# Altium schematic symbol library PMP30284RevB_project.SCHLIB: 30 symbols
Pins are listed as number, name and electrical type; pins without a type are passive.

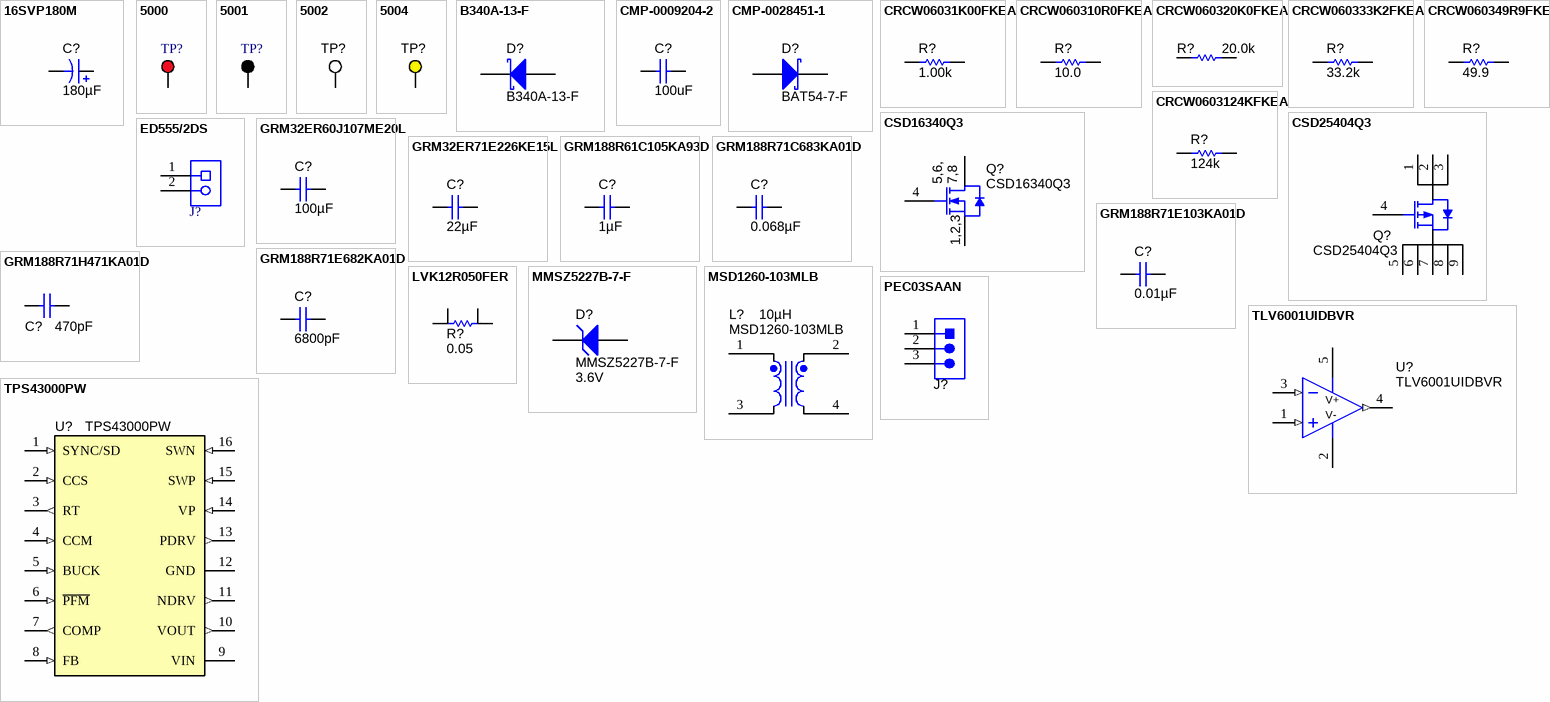
[diagram p0: symbols 16SVP180M to TPS43000PW]

## 16SVP180M
designator C?  ValueDisplayed: 180µF  (hidden comment: 16SVP180M)
CAP, Aluminum Polymer, 180 µF, 16 V,+/- 20%, 0.02 ohm, 8x10 SMD; Manufacturer: Panasonic; Polarized: Y; CompType: Capacitor; Value: 180uF; U/M: EA; Cap_F: 0.00018; Tolerance_%: 20; VDC_V: 16; Value2: 16V; ESR_ohm: 0.02; IRMS_A: 3.64; TaMin_C: -55; TaMax_C: 105; Cap_Case: 8.3x8.3x11.9; SizeAreaWB_mm2: 113.3; SizeArea_mm2: 74.7; SizeX_mm: 9; SizeY_mm: 8.3; SizeZ_mm: 10.2; AEC Category: Q200; Green_Lifecycle: Not Set; Green_REACh: Incomplete; SymbolVersion: 2008-07-09; PartNumber: 16SVP180M; PackageReference: 8x10; RoHS: Y; Value1: 0.02 ohm; MountType: SMT; Technology: Aluminum Polymer; Series: SVP; Publisher: Texas Instruments; LatestRevisionDate: 2017-05-31; ComponentLink1Description: Datasheet link; ComponentLink1URL: https://industrial.panasonic.com/content/data/CP/PDF/OS-CON/S_OS-CON_SVP_e.pdf; AEC Qualified: ?; Green_EU RoHS: Incomplete; Green_EU RoHS-2: Incomplete
signal-integrity model Cap
simulation model Cap
footprint SM_RADIAL_8MM
pins: 1 +, 2 -

## 5000
designator TP?  (value not drawn)
Test Point, Miniature, Red, TH; Manufacturer: Keystone; CompType: Test Point Loop; ContactFinish: Silver; Green_Lifecycle: Active; Green_REACh: Passed; PartNumber: 5000; PackageReference: Red Miniature Testpoint; SymbolVersion: 2008-04-04; ComponentLink1URL: http://www.keyelco.com/userAssets/file/M60-2p60.pdf; RoHS: Y; MountType: TH; ComponentLink1Description: Datasheet URL; Color: Red; Publisher: Texas Instruments; LatestRevisionDate: 2017-05-11; Supplier 1: Digi-Key; Supplier Part Number 1: 36-5000-ND; Supplier 2: Mouser; Supplier Part Number 2: 534-5000; Green_EU RoHS: Passed; Green_EU RoHS-2: Incomplete
footprint Keystone5000
pins: 1

## 5001
designator TP?  (value not drawn)
Test Point, Miniature, Black, TH; Manufacturer: Keystone; CompType: Test Point Loop; ContactFinish: Silver; Green_Lifecycle: Active; Green_REACh: Passed; PartNumber: 5001; PackageReference: Black Miniature Testpoint; SymbolVersion: 2008-04-04; ComponentLink1URL: http://www.keyelco.com/userAssets/file/M60-2p60.pdf; RoHS: Y; MountType: TH; ComponentLink1Description: Datasheet URL; Color: Black; Publisher: Texas Instruments; LatestRevisionDate: 2017-05-11; Supplier 1: Digi-Key; Supplier Part Number 1: 36-5001-ND; Supplier 2: Mouser; Supplier Part Number 2: 534-5001; Green_EU RoHS: Passed; Green_EU RoHS-2: Incomplete
footprint Keystone5001
pins: 1

## 5002
designator TP?  (value not drawn)
Test Point, Miniature, White, TH; Manufacturer: Keystone; CompType: Test Point Loop; ContactFinish: Silver; Green_Lifecycle: Active; Green_REACh: Passed; SymbolVersion: 2008-04-04; PartNumber: 5002; PackageReference: White Miniature Testpoint; RoHS: Y; MountType: TH; ComponentLink1Description: Datasheet URL; ComponentLink1URL: http://www.keyelco.com/userAssets/file/M60-2p60.pdf; Color: White; Publisher: Texas Instruments; LatestRevisionDate: 2017-05-11; Supplier 1: Digi-Key; Supplier Part Number 1: 36-5002-ND; Supplier 2: Newark; Supplier Part Number 2: 82H9632; Supplier 3: Mouser; Supplier Part Number 3: 534-5002; Green_EU RoHS: Passed; Green_EU RoHS-2: Passed
footprint Keystone5002
pins: 1

## 5004
designator TP?  (value not drawn)
Test Point, Miniature, Yellow, TH; Manufacturer: Keystone; CompType: Test Point Loop; ContactFinish: Silver; Green_Lifecycle: Active; Green_REACh: Passed; SymbolVersion: 2008-04-04; PartNumber: 5004; PackageReference: Yellow Miniature Testpoint; RoHS: Y; MountType: TH; ComponentLink1Description: Datasheet URL; ComponentLink1URL: http://www.keyelco.com/userAssets/file/M60-2p60.pdf; Color: Yellow; Publisher: Texas Instruments; LatestRevisionDate: 2017-05-11; Supplier 1: Digi-Key; Supplier Part Number 1: 36-5004-ND; Supplier 2: Mouser; Supplier Part Number 2: 534-5004; Green_EU RoHS: Passed; Green_EU RoHS-2: Incomplete
footprint Keystone5004
pins: 1

## B340A-13-F
designator D?
Diode, Schottky, 40 V, 3 A, SMA; Manufacturer: Diodes Inc.; U/M: EA; Vf_V: 0.5; Value: 40V; Value1: 3A; Value2: 0.5V; Io_A: 3; Vr_V: 40; TJmax_C: 125; RJC_CperW: 25; SizeAreaWB_mm2: 37.3428; SizeArea_mm2: 16.3228; SizeX_mm: 5.59; SizeY_mm: 2.92; SizeZ_mm: 2.87; AEC Category: Q101; Green_Lifecycle: Active; Green_REACh: Passed; CompType: Diode; SymbolVersion: 2008-12-08; PartNumber: B340A-13-F; PackageReference: SMA; MountType: SMT; Type: Schottky; RoHS: Y; Published: 2008-06-26; Publisher: Texas Instruments; LatestRevisionDate: 2017-05-30; ComponentLink1Description: Datasheet link; ComponentLink1URL: http://www.diodes.com/datasheets/ds30891.pdf; Supplier 1: Digi-Key; Supplier Part Number 1: B340A-FDICT-ND; Supplier 2: Mouser; Supplier Part Number 2: 621-B340A-F; Supplier 3: Farnell; Supplier Part Number 3: 1843668; AEC Qualified: ?; Green_EU RoHS: Passed with Exemption; Green_EU RoHS-2: Passed
signal-integrity model Diode
simulation model DI_B340A
footprint SMA
pins: 1 K, 2 A

## CMP-0009204-2
designator C?, comment ValueDisplayed: 100uF  (hidden comment: GRM32ER60J107ME20L)
CAP, CERM, 100 uF, 6.3 V, +/- 20%, X5R, 1210; Manufacturer: MuRata; TaMin_C: -55°C; ESR_ohm: 2m; Polarized: N; SizeAreaWB_mm2: 14.7; Value1: 0.002 ohm; U/M: EA; Value: 100uF; TaMax_C: 85°C; SizeZ_mm: 2.7; SizeX_mm: 3.2; SizeY_mm: 2.5; Cap_Case: 1210; Value2: 6.3V; SizeArea_mm2: 8; CompType: Capacitor; Cap_F: 100µF; AEC Category: Q200; Supplier Part Number 2: 81-GRM32ER60J107ME20; Publisher: Texas Instruments; Supplier 2: Mouser; Supplier Part Number 3: 1828817; TempCo: X5R; Supplier 3: Farnell; Published: 2008-06-19; RoHS: Y; MountType: SMT; Supplier 1: Digi-Key; PackageReference: 1210; Tolerance_%: 20%; LatestRevisionDate: 2017-03-09; PartNumber: GRM32ER60J107ME20L; AEC Qualified: ?; VDC_V: 6.3V; ComponentLink1Description: Datasheet link; Supplier Part Number 1: 490-3390-1-ND; Technology: Ceramic; ComponentLink1URL: http://search.murata.co.jp/Ceramy/PnsearchViewAction.do?HnOFG=ON&HnNFG=ON&SEL_CNT=50&sLang=en&sKey=GRM32ER60J107ME20L&x=9&y=9&search=startwith
footprint 1210_270 (1210)
footprint 1210_270L (1210)
footprint 1210_270M (1210)
pins: 1, 2

## CMP-0028451-1
designator D?, comment BAT54-7-F
Diode, Schottky, 30 V, 0.2 A, SOT-23; Manufacturer: Diodes Inc.; Io_A: 2dA; Green_Lifecycle: Active; SizeAreaWB_mm2: 14; Vr_V: 30V; Green_REACh: Passed; Value1: 0.2A; TJmax_C: 125°C; U/M: EA; Value: 30V; SizeZ_mm: 1.1; SizeX_mm: 2.5; SizeY_mm: 3; Vf_V: 6.5dV; Value2: 0.65V; SizeArea_mm2: 7.5; AEC Category: Q101; ComponentLink1URL: http://www.diodes.com/datasheets/ds11005.pdf; Supplier Part Number 2: 621-BAT54-F; Publisher: Texas Instruments; Supplier 2: Mouser; Published: 2008-06-26; RoHS: Y; MountType: SMT; Green_EU RoHS-2: Passed; Supplier 1: Digi-Key; Green_EU RoHS: Passed; PackageReference: SOT-23; CompType: Diode; Type: Schottky; LatestRevisionDate: 2017-05-08; PartNumber: BAT54-7-F; AEC Qualified: ?; ComponentLink1Description: Datasheet link; Supplier Part Number 1: BAT54-FDICT-ND
footprint SOT-23 (SOT23, 3-Leads, Body 2.9x1.3mm, Pitch 0.95mm, Lead Span 2.5mm, IPC Medium Density)
footprint SOT-23L (SOT23, 3-Leads, Body 2.9x1.3mm, Pitch 0.95mm, Lead Span 2.5mm, IPC High Density)
footprint SOT-23M (SOT23, 3-Leads, Body 2.9x1.3mm, Pitch 0.95mm, Lead Span 2.5mm, IPC Low Density)
pins: 1 A, 3 K

## CRCW06031K00FKEA
designator R?  ValueDisplayed: 1.00k  (hidden comment: CRCW06031K00FKEA)
RES, 1.00 k, 1%, 0.1 W, 0603; Manufacturer: Vishay-Dale; Value: 1.00k; CompType: Resistor; Res_ohm: 1000; Value_Code: 1k00; Tolerance_%: 1; Power_W: 0.1; Value2: 0.1W; VDC_V: 75; TempCo: 100 ppm/C; SizeArea_mm2: 1.28; SizeX_mm: 1.6; SizeY_mm: 0.8; EIA_Code: E96; U/M: EA; AEC Category: Q200; Green_Lifecycle: Active; Green_REACh: Passed; SymbolVersion: 2009-05-29; PartNumber: CRCW06031K00FKEA; PackageReference: 0603; RoHS: Y; Value1: 1%; MountType: SMT; Technology: Thick Film; SizeZ_mm: 1; Published: 2008-06-26; Publisher: Texas Instruments; LatestRevisionDate: 2017-06-13; ComponentLink1Description: Datasheet link; ComponentLink1URL: http://www.vishay.com/docs/20035/dcrcwe3.pdf; Supplier 1: Digi-Key; Supplier Part Number 1: 541-1.00KHCT-ND; Supplier 2: Newark; Supplier Part Number 2: 52K8015; Supplier 3: Mouser; Supplier Part Number 3: 71-CRCW0603-1.0K-E3; AEC Qualified: ?; Green_EU RoHS: Passed with Exemption; Green_EU RoHS-2: Passed
signal-integrity model Resistor
simulation model Resistor
footprint 0603
footprint 0603M
footprint 0603L
footprint 0603_HV
footprint 0603S
pins: 1, 2

## CRCW060310R0FKEA
designator R?  ValueDisplayed: 10.0  (hidden comment: CRCW060310R0FKEA)
RES, 10.0, 1%, 0.1 W, 0603; Manufacturer: Vishay-Dale; CompType: Resistor; Value: 10.0; Res_ohm: 10; Value_Code: 10R0; Tolerance_%: 1; Power_W: 0.1; Value2: 0.1W; VDC_V: 75; TempCo: 100 ppm/C; SizeArea_mm2: 1.28; SizeX_mm: 1.6; SizeY_mm: 0.8; EIA_Code: E96; U/M: EA; AEC Category: Q200; Green_Lifecycle: Active; Green_REACh: Passed; SymbolVersion: 2009-05-29; PartNumber: CRCW060310R0FKEA; PackageReference: 0603; RoHS: Y; Value1: 1%; MountType: SMT; Technology: Thick Film; SizeZ_mm: 1; Published: 2008-06-26; Publisher: Texas Instruments; LatestRevisionDate: 2017-05-31; ComponentLink1Description: Datasheet link; ComponentLink1URL: http://www.vishay.com/docs/20035/dcrcwe3.pdf; Supplier 1: Digi-Key; Supplier Part Number 1: 541-10.0HCT-ND; Supplier 2: Newark; Supplier Part Number 2: 52K8073; Supplier 3: Mouser; Supplier Part Number 3: 71-CRCW0603-10-E3; AEC Qualified: ?; Green_EU RoHS: Passed with Exemption; Green_EU RoHS-2: Passed
signal-integrity model Resistor
simulation model Resistor
footprint 0603
footprint 0603M
footprint 0603L
footprint 0603_HV
footprint 0603S
pins: 1, 2

## CRCW060320K0FKEA
designator R?  ValueDisplayed: 20.0k  (hidden comment: CRCW060320K0FKEA)
RES, 20.0 k, 1%, 0.1 W, 0603; Manufacturer: Vishay-Dale; CompType: Resistor; Value: 20.0k; Res_ohm: 20000; Value_Code: 20k0; Tolerance_%: 1; Power_W: 0.1; Value2: 0.1W; VDC_V: 75; TempCo: 100 ppm/C; SizeArea_mm2: 1.28; SizeX_mm: 1.6; SizeY_mm: 0.8; EIA_Code: E96; U/M: EA; AEC Category: Q200; Green_Lifecycle: Active; Green_REACh: Passed; SymbolVersion: 2009-05-29; PartNumber: CRCW060320K0FKEA; PackageReference: 0603; RoHS: Y; Value1: 1%; MountType: SMT; Technology: Thick Film; SizeZ_mm: 1; Published: 2008-06-26; Publisher: Texas Instruments; LatestRevisionDate: 2017-05-31; ComponentLink1Description: Datasheet link; ComponentLink1URL: http://www.vishay.com/docs/20035/dcrcwe3.pdf; Supplier 1: Digi-Key; Supplier Part Number 1: 541-20.0KHCT-ND; Supplier 2: Newark; Supplier Part Number 2: 52K8267; Supplier 3: Mouser; Supplier Part Number 3: 71-CRCW0603-20K-E3; AEC Qualified: ?; Green_EU RoHS: Passed with Exemption; Green_EU RoHS-2: Passed
signal-integrity model Resistor
simulation model Resistor
footprint 0603
footprint 0603M
footprint 0603L
footprint 0603_HV
footprint 0603S
pins: 1, 2

## CRCW060333K2FKEA
designator R?  ValueDisplayed: 33.2k  (hidden comment: CRCW060333K2FKEA)
RES, 33.2 k, 1%, 0.1 W, 0603; Manufacturer: Vishay-Dale; CompType: Resistor; Value: 33.2k; Res_ohm: 33200; Value_Code: 33k2; Tolerance_%: 1; Power_W: 0.1; Value2: 0.1W; VDC_V: 75; TempCo: 100 ppm/C; SizeArea_mm2: 1.28; SizeX_mm: 1.6; SizeY_mm: 0.8; EIA_Code: E96; U/M: EA; AEC Category: Q200; Green_Lifecycle: Active; Green_REACh: Passed; SymbolVersion: 2009-05-29; PartNumber: CRCW060333K2FKEA; PackageReference: 0603; RoHS: Y; Value1: 1%; MountType: SMT; Technology: Thick Film; SizeZ_mm: 1; Published: 2008-06-26; Publisher: Texas Instruments; LatestRevisionDate: 2017-05-31; ComponentLink1Description: Datasheet link; ComponentLink1URL: http://www.vishay.com/docs/20035/dcrcwe3.pdf; Supplier 1: Digi-Key; Supplier Part Number 1: 541-33.2KHCT-ND; Supplier 2: Mouser; Supplier Part Number 2: 71-CRCW0603-33.2K-E3; Supplier 3: Farnell; Supplier Part Number 3: 1692523; AEC Qualified: ?; Green_EU RoHS: Passed with Exemption; Green_EU RoHS-2: Passed
signal-integrity model Resistor
simulation model Resistor
footprint 0603
footprint 0603M
footprint 0603L
footprint 0603_HV
footprint 0603S
pins: 1, 2

## CRCW060349R9FKEA
designator R?  ValueDisplayed: 49.9  (hidden comment: CRCW060349R9FKEA)
RES, 49.9, 1%, 0.1 W, 0603; Manufacturer: Vishay-Dale; Value: 49.9; CompType: Resistor; Value_Code: 49R9; Tolerance_%: 1; Power_W: 0.1; Value2: 0.1W; VDC_V: 75; TempCo: 100 ppm/C; SizeArea_mm2: 1.28; SizeX_mm: 1.6; SizeY_mm: 0.8; EIA_Code: E96; U/M: EA; AEC Category: Q200; Green_Lifecycle: Active; Green_REACh: Passed; SymbolVersion: 2009-05-29; PartNumber: CRCW060349R9FKEA; PackageReference: 0603; RoHS: Y; Res_ohm: 49.9; Value1: 1%; MountType: SMT; Technology: Thick Film; SizeZ_mm: 1; Published: 2008-06-26; Publisher: Texas Instruments; LatestRevisionDate: 2017-06-13; ComponentLink1Description: Datasheet link; ComponentLink1URL: http://www.vishay.com/docs/20035/dcrcwe3.pdf; Supplier 1: Digi-Key; Supplier Part Number 1: 541-49.9HCT-ND; Supplier 2: Newark; Supplier Part Number 2: 52K8566; Supplier 3: Mouser; Supplier Part Number 3: 71-CRCW0603-49.9-E3; AEC Qualified: ?; Green_EU RoHS: Passed with Exemption; Green_EU RoHS-2: Passed
signal-integrity model Resistor
simulation model Resistor
footprint 0603
footprint 0603M
footprint 0603L
footprint 0603_HV
footprint 0603S
pins: 1, 2

## CRCW0603124KFKEA
designator R?  ValueDisplayed: 124k  (hidden comment: CRCW0603124KFKEA)
RES, 124 k, 1%, 0.1 W, 0603; Manufacturer: Vishay-Dale; Value: 124k; CompType: Resistor; Res_ohm: 124000; Tolerance_%: 1; Power_W: 0.1; Value2: 0.1W; VDC_V: 75; TempCo: 100 ppm/C; SizeArea_mm2: 1.28; SizeX_mm: 1.6; SizeY_mm: 0.8; EIA_Code: E96; U/M: EA; AEC Category: Q200; Green_Lifecycle: Active; Green_REACh: Passed; SymbolVersion: 2009-05-29; PartNumber: CRCW0603124KFKEA; PackageReference: 0603; RoHS: Y; Value_Code: 124k; Value1: 1%; MountType: SMT; Technology: Thick Film; SizeZ_mm: 1; Published: 2008-06-26; Publisher: Texas Instruments; LatestRevisionDate: 2017-06-13; ComponentLink1Description: Datasheet link; ComponentLink1URL: http://www.vishay.com/docs/20035/dcrcwe3.pdf; Supplier 1: Digi-Key; Supplier Part Number 1: 541-124KHCT-ND; Supplier 2: Newark; Supplier Part Number 2: 52K8117; Supplier 3: Mouser; Supplier Part Number 3: 71-CRCW0603-124K-E3; AEC Qualified: ?; Green_EU RoHS: Passed with Exemption; Green_EU RoHS-2: Passed
signal-integrity model Resistor
simulation model Resistor
footprint 0603
footprint 0603M
footprint 0603L
footprint 0603_HV
footprint 0603S
pins: 1, 2

## CSD16340Q3
designator Q?
MOSFET, N-CH, 25 V, 60 A, DQG0008A (VSON-CLIP-8); Manufacturer: Texas Instruments; Alternate Manufacturer: None; U/M: EA; ChType: N; Value: 25V; VdsMax_V: 25; Value1: 0.0043 ohm; Rdson45_ohm: 0.0043; Value2: 6.5 nC; QgTyp_nC: 6.5; Vgs_V: 10; IdsMax_A: 60; SizeAreaWB_mm2: 18.49; SizeArea_mm2: 10.89; SizeX_mm: 3.3; SizeZ_mm: 1.1; AEC Category: Q101; SymbolVersion: 2011-08-16; PartNumber: CSD16340Q3; PackageReference: DQG0008A; CompType: MOSFET; SizeY_mm: 3.3; RoHS: Y; MountType: SMT; Published: 2008-06-19; Publisher: Texas Instruments; LatestRevisionDate: 2017-06-02; LatestRevisionNote: Added parts.; ComponentLink1Description: Datasheet link; ComponentLink1URL: http://www.ti.com/lit/ds/symlink/csd16340q3.pdf; Supplier 1: Digi-Key; Supplier Part Number 1: 296-25646-1-ND; Supplier 2: Newark; Supplier Part Number 2: 60R3529; Supplier 3: Mouser; Supplier Part Number 3: 595-CSD16340Q3; AEC Qualified: ?
footprint DQG0008A
footprint DQG0008A_NV
simulation model CSD16340Q3
pins: 1 S, 2 S, 3 S, 4 G, 5 D, 6 D, 7 D, 8 D, 9 D
text: 5,6,; 7,8; 1,2,3

## CSD25404Q3
designator Q?
MOSFET, P-CH, -20 V, -60 A, DQG0008A (VSON-CLIP-8); Manufacturer: Texas Instruments; Alternate Manufacturer: None; SymbolCreator: a0799628; U/M: EA; ChType: P; Value: -20V; Value1: 0.0065 ohm; Rdson45_ohm: 0.0065; Value2: 10.8 nC; QgTyp_nC: 10.8; Vgs_V: -12; SizeAreaWB_mm2: 18.49; SizeArea_mm2: 10.89; SizeX_mm: 3.3; SizeZ_mm: 1.1; AEC Category: Q101; AEC Qualified: N; SymbolVersion: 2014-08-22; PartNumber: CSD25404Q3; PackageReference: DQG0008A; CompType: MOSFET; VdsMax_V: -20; IdsMax_A: -60; SizeY_mm: 3.3; RoHS: Y; MountType: SMT; Published: 2008-06-19; Publisher: Texas Instruments; LatestRevisionDate: 2017-06-02; LatestRevisionNote: Added parts.; ComponentLink1Description: Datasheet link; ComponentLink1URL: http://www.ti.com/lit/ds/symlink/csd25404q3.pdf
footprint DQG0008A
footprint DQG0008A_NV
pins: 1 D, 2 D, 3 D, 4 G, 5 S, 6 S, 7 S, 8 S, 9 S

## ED555/2DS
designator J?  (value not drawn)
Terminal Block, 3.5mm Pitch, 2x1, TH; Manufacturer: On-Shore Technology; SymbolCreator: a0412235; Pitch_mm: 3.5; Gender: Female; Shrouded: N; Row_Count: 1; ContactFinish: Brass; Current_A: 6; Voltage_V: 150; Cert_CULUS: Y; Green_Lifecycle: Active; Green_REACh: Passed; PartNumber: ED555/2DS; PackageReference: 7.0x8.2x6.5mm; SymbolVersion: 2013-09-04; ComponentLink1URL: http://on-shore.com/sites/default/files/manuals/ed555ds.pdf; CompType: Terminal Block; RoHS: Y; MountType: TH; ComponentLink1Description: Datasheet URL; PinCount: 2; Color: Grey; Cert_VDE: Y; Publisher: Texas Instruments; LatestRevisionDate: 2017-06-05; Supplier 1: Digi-Key; Supplier Part Number 1: ED1514-ND; Green_EU RoHS: Passed with Exemption; Green_EU RoHS-2: Passed
footprint TERM_BLK_ED555-2DS
pins: 1, 2

## GRM32ER60J107ME20L
designator C?  ValueDisplayed: 100µF  (hidden comment: GRM32ER60J107ME20L)
CAP, CERM, 100 µF, 6.3 V,+/- 20%, X5R, 1210; Manufacturer: MuRata; Polarized: N; CompType: Capacitor; Value: 100uF; U/M: EA; Cap_F: 0.0001; Tolerance_%: 20; ESR_ohm: 0.002; Value1: 0.002 ohm; VDC_V: 6.3; Value2: 6.3V; TaMin_C: -55; TaMax_C: 85; Cap_Case: 1210; SizeArea_mm2: 8; SizeAreaWB_mm2: 14.7; SizeX_mm: 3.2; SizeY_mm: 2.5; SizeZ_mm: 2.7; AEC Category: Q200; Green_Lifecycle: Active; Green_REACh: Passed; SymbolVersion: 2008-07-09; PartNumber: GRM32ER60J107ME20L; PackageReference: 1210; RoHS: Y; MountType: SMT; Technology: Ceramic; TempCo: X5R; Published: 2008-06-19; Publisher: Texas Instruments; LatestRevisionDate: 2017-06-02; ComponentLink1Description: Datasheet link; ComponentLink1URL: http://search.murata.co.jp/Ceramy/PnsearchViewAction.do?HnOFG=ON&HnNFG=ON&SEL_CNT=50&sLang=en&sKey=GRM32ER60J107ME20L&x=9&y=9&search=startwith; Supplier 1: Digi-Key; Supplier Part Number 1: 490-3390-1-ND; Supplier 2: Mouser; Supplier Part Number 2: 81-GRM32ER60J107ME20; Supplier 3: Farnell; Supplier Part Number 3: 1828817; AEC Qualified: ?; Green_EU RoHS: Passed; Green_EU RoHS-2: Incomplete
signal-integrity model Cap
simulation model Cap
footprint 1210_270
footprint 1210_270M
footprint 1210_270L
pins: 1, 2

## GRM32ER71E226KE15L
designator C?  ValueDisplayed: 22µF  (hidden comment: GRM32ER71E226KE15L)
CAP, CERM, 22 µF, 25 V,+/- 10%, X7R, 1210; Manufacturer: MuRata; Polarized: N; CompType: Capacitor; Value: 22uF; U/M: EA; Cap_F: 0.000022; Tolerance_%: 10; ESR_ohm: 0.002334; Value1: 0.002334 ohm; VDC_V: 25; Value2: 25V; IRMS_A: 3.832999; TaMin_C: -55; TaMax_C: 125; Cap_Case: 1210; SizeArea_mm2: 8; SizeAreaWB_mm2: 14.7; SizeX_mm: 3.2; SizeY_mm: 2.5; SizeZ_mm: 2.7; AEC Category: Q200; Green_Lifecycle: Active; Green_REACh: Passed; SymbolVersion: 2008-07-09; PartNumber: GRM32ER71E226KE15L; PackageReference: 1210; RoHS: Y; MountType: SMT; Technology: Ceramic; TempCo: X7R; Published: 2008-06-19; Publisher: Texas Instruments; LatestRevisionDate: 2017-06-02; ComponentLink1Description: Datasheet link; ComponentLink1URL: http://psearch.en.murata.com/capacitor/result/smd/?status=all&pid=GRM32ER71E226KE15L; Supplier 1: Digi-Key; Supplier Part Number 1: 490-5313-1-ND; Supplier 2: Mouser; Supplier Part Number 2: 81-GRM32ER71E226KE5L; Supplier 3: Farnell; Supplier Part Number 3: 1797019; AEC Qualified: N; AEC Grade: N/A; Green_EU RoHS: Passed; Green_EU RoHS-2: Passed
signal-integrity model Cap
simulation model Cap
footprint 1210_270
footprint 1210_270M
footprint 1210_270L
pins: 1, 2

## GRM188R61C105KA93D
designator C?  ValueDisplayed: 1µF  (hidden comment: GRM188R61C105KA93D)
CAP, CERM, 1 µF, 16 V,+/- 10%, X5R, 0603; Manufacturer: MuRata; Value: 1uF; Polarized: N; CompType: Capacitor; U/M: EA; Cap_F: 0.000001; Tolerance_%: 10; VDC_V: 16; Value2: 16V; TaMin_C: -55; TaMax_C: 85; Cap_Case: 0603; SizeArea_mm2: 1.28; SizeAreaWB_mm2: 4.68; SizeX_mm: 1.6; SizeY_mm: 0.8; SizeZ_mm: 1; AEC Category: Q200; Green_Lifecycle: Active; Green_REACh: Passed; PartNumber: GRM188R61C105KA93D; SymbolVersion: 2008-07-09; PackageReference: 0603; RoHS: Y; MountType: SMT; Technology: Ceramic; TempCo: X5R; Published: 2008-06-19; Publisher: Texas Instruments; LatestRevisionDate: 2017-06-16; ComponentLink1Description: Datasheet link; ComponentLink1URL: http://search.murata.co.jp/Ceramy/PnsearchViewAction.do?HnOFG=ON&HnNFG=ON&SEL_CNT=50&sLang=en&sKey=GRM188R61C105KA93D&x=9&y=9&search=startwith; Supplier 1: Digi-Key; Supplier Part Number 1: 490-1536-1-ND; Supplier 2: Mouser; Supplier Part Number 2: 81-GRM39R105K16; Supplier 3: Farnell; Supplier Part Number 3: 1828801; AEC Qualified: ?; Green_EU RoHS: Passed; Green_EU RoHS-2: Incomplete
signal-integrity model Cap
simulation model Cap
footprint 0603
footprint 0603M
footprint 0603L
footprint 0603_HV
footprint 0603S
pins: 1, 2

## GRM188R71C683KA01D
designator C?  ValueDisplayed: 0.068µF  (hidden comment: GRM188R71C683KA01D)
CAP, CERM, 0.068 µF, 16 V,+/- 10%, X7R, 0603; Manufacturer: MuRata; Polarized: N; CompType: Capacitor; Value: 0.068uF; U/M: EA; Cap_F: 0.000000068; Tolerance_%: 10; Value1: Unknown; VDC_V: 16; Value2: 16V; TaMin_C: -55; TaMax_C: 125; Cap_Case: 0603; SizeArea_mm2: 1.28; SizeAreaWB_mm2: 4.68; SizeX_mm: 1.6; SizeY_mm: 0.8; SizeZ_mm: 1; AEC Category: Q200; SymbolVersion: 2008-07-09; PartNumber: GRM188R71C683KA01D; PackageReference: 0603; RoHS: Y; MountType: SMT; Technology: Ceramic; TempCo: X7R; Published: 2008-06-19; Publisher: Texas Instruments; LatestRevisionDate: 2017-06-02; ComponentLink1Description: Datasheet link; ComponentLink1URL: http://search.murata.co.jp/Ceramy/PnsearchViewAction.do?HnOFG=ON&HnNFG=ON&SEL_CNT=50&sLang=en&sKey=GRM188R71C683KA01D&x=9&y=9&search=startwith; Supplier 1: Digi-Key; Supplier Part Number 1: 490-1531-1-ND; Supplier 2: Mouser; Supplier Part Number 2: 81-GRM39X683K16D; AEC Qualified: ?
signal-integrity model Cap
simulation model Cap
footprint 0603
footprint 0603M
footprint 0603L
footprint 0603_HV
footprint 0603S
pins: 1, 2

## GRM188R71E103KA01D
designator C?  ValueDisplayed: 0.01µF  (hidden comment: GRM188R71E103KA01D)
CAP, CERM, 0.01 µF, 25 V,+/- 10%, X7R, 0603; Manufacturer: MuRata; Polarized: N; CompType: Capacitor; Value: 0.01uF; U/M: EA; Cap_F: 0.00000001; Tolerance_%: 10; Value1: Unknown; VDC_V: 25; Value2: 25V; TaMin_C: -55; TaMax_C: 125; Cap_Case: 0603; SizeArea_mm2: 1.28; SizeAreaWB_mm2: 4.68; SizeX_mm: 1.6; SizeY_mm: 0.8; SizeZ_mm: 1; AEC Category: Q200; Green_Lifecycle: Active; Green_REACh: Passed; SymbolVersion: 2008-07-09; PartNumber: GRM188R71E103KA01D; PackageReference: 0603; RoHS: Y; MountType: SMT; Technology: Ceramic; TempCo: X7R; Published: 2008-06-19; Publisher: Texas Instruments; LatestRevisionDate: 2017-06-02; ComponentLink1Description: Datasheet link; ComponentLink1URL: http://search.murata.co.jp/Ceramy/PnsearchViewAction.do?HnOFG=ON&HnNFG=ON&SEL_CNT=50&sLang=en&sKey=GRM188R71E103KA01D&x=9&y=9&search=startwith; Supplier 1: Digi-Key; Supplier Part Number 1: 490-1520-1-ND; Supplier 2: Mouser; Supplier Part Number 2: 81-GRM39X103K25; AEC Qualified: ?; Green_EU RoHS: Passed; Green_EU RoHS-2: Incomplete
signal-integrity model Cap
simulation model Cap
footprint 0603
footprint 0603M
footprint 0603L
footprint 0603_HV
footprint 0603S
pins: 1, 2

## GRM188R71E682KA01D
designator C?  ValueDisplayed: 6800pF  (hidden comment: GRM188R71E682KA01D)
CAP, CERM, 6800 pF, 25 V,+/- 10%, X7R, 0603; Manufacturer: MuRata; Polarized: N; CompType: Capacitor; Value: 6800pF; U/M: EA; Cap_F: 0.0000000068; Tolerance_%: 10; Value1: Unknown; VDC_V: 25; Value2: 25V; TaMin_C: -55; TaMax_C: 125; Cap_Case: 0603; SizeArea_mm2: 1.28; SizeAreaWB_mm2: 4.68; SizeX_mm: 1.6; SizeY_mm: 0.8; SizeZ_mm: 1; AEC Category: Q200; SymbolVersion: 2008-07-09; PartNumber: GRM188R71E682KA01D; PackageReference: 0603; RoHS: Y; MountType: SMT; Technology: Ceramic; TempCo: X7R; Published: 2008-06-19; Publisher: Texas Instruments; LatestRevisionDate: 2017-06-02; ComponentLink1Description: Datasheet link; ComponentLink1URL: http://search.murata.co.jp/Ceramy/PnsearchViewAction.do?HnOFG=ON&HnNFG=ON&SEL_CNT=50&sLang=en&sKey=GRM188R71E682KA01D&x=9&y=9&search=startwith; Supplier 1: Mouser; Supplier Part Number 1: 81-GRM18R71E682KA01D; AEC Qualified: ?
signal-integrity model Cap
simulation model Cap
footprint 0603
footprint 0603M
footprint 0603L
footprint 0603_HV
footprint 0603S
pins: 1, 2

## GRM188R71H471KA01D
designator C?  ValueDisplayed: 470pF  (hidden comment: GRM188R71H471KA01D)
CAP, CERM, 470 pF, 50 V,+/- 10%, X7R, 0603; Manufacturer: MuRata; Polarized: N; CompType: Capacitor; Value: 470pF; U/M: EA; Cap_F: 0.00000000047; Tolerance_%: 10; Value1: Unknown; VDC_V: 50; Value2: 50V; TaMin_C: -55; TaMax_C: 125; Cap_Case: 0603; SizeArea_mm2: 1.28; SizeAreaWB_mm2: 4.68; SizeX_mm: 1.6; SizeY_mm: 0.8; SizeZ_mm: 1; AEC Category: Q200; Green_Lifecycle: Active; Green_REACh: Passed; SymbolVersion: 2008-07-09; PartNumber: GRM188R71H471KA01D; PackageReference: 0603; RoHS: Y; MountType: SMT; Technology: Ceramic; TempCo: X7R; Published: 2008-06-19; Publisher: Texas Instruments; LatestRevisionDate: 2017-06-02; ComponentLink1Description: Datasheet link; ComponentLink1URL: http://search.murata.co.jp/Ceramy/PnsearchViewAction.do?HnOFG=ON&HnNFG=ON&SEL_CNT=50&sLang=en&sKey=GRM188R71H471KA01D&x=9&y=9&search=startwith; Supplier 1: Digi-Key; Supplier Part Number 1: 490-1489-1-ND; Supplier 2: Mouser; Supplier Part Number 2: 81-GRM39X471K50D; Supplier 3: Farnell; Supplier Part Number 3: 1403790; AEC Qualified: ?; Green_EU RoHS: Passed; Green_EU RoHS-2: Incomplete
signal-integrity model Cap
simulation model Cap
footprint 0603
footprint 0603M
footprint 0603L
footprint 0603_HV
footprint 0603S
pins: 1, 2

## LVK12R050FER
designator R?  ValueDisplayed: 0.05  (hidden comment: LVK12R050FER)
RES, 0.05, 1%, 0.5 W, 1206 sense; Manufacturer: Ohmite; CompType: Resistor; Value: 0.05; Value_Code: R050; Tolerance_%: 1; Power_W: 0.5; Value2: 0.5W; TempCo: 50 ppm/C; EIA_Code: E96; U/M: EA; AEC Category: Q200; SymbolVersion: 2009-05-29; PartNumber: LVK12R050FER; PackageReference: 1206 sense; RoHS: Y; Res_ohm: 0.05; Value1: 1%; MountType: SMT; Technology: Thick Film; Published: 2008-06-26; Publisher: Texas Instruments; LatestRevisionDate: 2017-05-17; ComponentLink1Description: Datasheet link; ComponentLink1URL: http://www.ohmite.com/catalog/pdf/lvk.pdf; Supplier 1: Digi-Key; Supplier Part Number 1: LVK12R050FERCT-ND; Supplier 2: Mouser; Supplier Part Number 2: 588-LVK12R050FER; Supplier 3: Farnell; Supplier Part Number 3: 1462290; AEC Qualified: ?
signal-integrity model Resistor
simulation model Resistor
footprint LVK12
pins: 1, 2, 3, 4

## MMSZ5227B-7-F
designator D?  value 3.6V
Diode, Zener, 3.6 V, 500 mW, SOD-123; Manufacturer: Diodes Inc.; SymbolCreator: a0412235; U/M: EA; Power_W: 0.5; Vz_V: 3.6; Value1: 0.5W; RJA_CperW: 350; SizeAreaWB_mm2: 13.095; SizeArea_mm2: 6.545; SizeX_mm: 3.85; SizeY_mm: 1.7; SizeZ_mm: 1.35; AEC Category: Q101; SymbolVersion: 2010-08-25; PartNumber: MMSZ5227B-7-F; PackageReference: SOD-123; CompType: Zener; Vr_V: N/A; MountType: SMT; RoHS: Y; ComponentLink1Description: Datasheet link; ComponentLink1URL: http://www.diodes.com/datasheets/ds18010.pdf; Published: 2008-10-08; Publisher: Texas Instruments; LatestRevisionDate: 2017-05-11; LatestRevisionNote: Updated Supplier Data; Supplier 1: Digi-Key; Supplier Part Number 1: MMSZ5227B-FDICT-ND; Supplier 2: Mouser; Supplier Part Number 2: 621-MMSZ5227B-F; Supplier 3: Farnell; Supplier Part Number 3: 2061465; AEC Qualified: ?
signal-integrity model Diode
footprint SOD-123
pins: 1 K, 2 A

## MSD1260-103MLB
designator L?  ValueDisplayed: 10µH
Coupled inductor, 10 µH, 3.7 A, 0.06 ohm, SMD; Manufacturer: Coilcraft; SymbolCreator: a0412235; Value: 10uH; Ind_H: 10.0E-6; DCR_ohm: 0.06; SymbolVersion: 2013-05-20; PartNumber: MSD1260-103MLB; PackageReference: MSD1260; MountType: SMT; ComponentLink1URL: http://www.coilcraft.com/pdfs/msd1260.pdf; ComponentLink1Description: Datasheet URL; RoHS: Y; CompType: Coupled Inductor; Publisher: Texas Instruments; Published: 2008-05-16; LatestRevisionDate: 2017-06-02
footprint MSD1260-COUPLED
pins: 1, 2, 3, 4

## PEC03SAAN
designator J?  (value not drawn)
Header, 100mil, 3x1, Tin, TH; Manufacturer: Sullins Connector Solutions; SymbolCreator: a0412235; Pitch_mm: 2.54; Gender: Male; Shrouded: N; Row_Count: 1; Current_A: 3; Voltage_V: 1800; Cert_UL: Y; Green_Lifecycle: Not Set; Green_REACh: Incomplete; SymbolVersion: 2017-03-03; PartNumber: PEC03SAAN; PackageReference: Header, 3 PIN, 100mil, Tin; ClassName: Header; CompType: Header; RoHS: Y; MountType: TH; ComponentLink1Description: Datasheet URL; ComponentLink1URL: http://www.sullinscorp.com/catalogs/77_PAGE108-109_.100_MALE_HDR.pdf; Orientation: Vertical; PinCount: 3; ContactFinish: Tin; Color: Black; Publisher: Texas Instruments; LatestRevisionDate: 2017-06-09; Supplier 1: Digi-Key; Supplier Part Number 1: S1012E-03-ND; Green_EU RoHS: Incomplete; Green_EU RoHS-2: Incomplete
footprint CONN_PEC03SAAN
footprint PEC03SAAN_Launchpad_3V3
footprint PEC03SAAN_Launchpad_5V0
pins: 1, 2, 3
5 alternate drawings of the same symbol

## TLV6001UIDBVR
designator U?
1-MHz, Low-Power Operational Amplifier for Cost-Sensitive Systems, DBV0005A (SOT-23-5); Alternate PartNumber: TLV6001UIDBVT; Manufacturer: Texas Instruments; SymbolCreator: a0411595; SizeArea_mm2: 8.12; SizeAreaWB_mm2: 14.82; SizeX_mm: 2.8; SizeY_mm: 2.9; SizeZ_mm: 1.45; CompType: IC; U/M: EA; SymbolVersion: 2015-01-06; PartNumber: TLV6001UIDBVR; PackageReference: DBV0005A; PackageDescription: SOT-23-5; MountType: SMT; ComponentLink1Description: Datasheet Link; ComponentLink1URL: http://www.ti.com/lit/ds/symlink/tlv6001.pdf; RoHS: Y; Publisher: Texas Instruments; LatestRevisionDate: 2017-05-22; Alternate Manufacturer: Texas Instruments
footprint DBV0005A_N
footprint DBV0005A_M
footprint DBV0005A_L
pins: 1 IN+ (in), 2 V- (power), 3 IN- (in), 4 OUT (out), 5 V+ (power)
1 alternate drawing of the same symbol

## TPS43000PW
designator U?
Multi-Topology (buck, boost, sepic) High Frequency DC/DC Controller, PW0016A (TSSOP-16); Manufacturer: Texas Instruments; SymbolCreator: a0411947; SizeArea_mm2: 32; SizeAreaWB_mm2: 58.8; SizeX_mm: 6.4; SizeY_mm: 5; SizeZ_mm: 1.2; CompType: IC; U/M: EA; SymbolVersion: 2016-1-26; PartNumber: TPS43000PW; PackageReference: PW0016A; PackageDescription: TSSOP-16; MountType: SMT; ComponentLink1Description: Datasheet Link; ComponentLink1URL: http://www.ti.com/lit/ds/symlink/tps43000.pdf; RoHS: Y; Publisher: Texas Instruments; LatestRevisionDate: 2017-06-05; Alternate Manufacturer: Texas Instruments
footprint PW0016A_N
footprint PW0016A_M
footprint PW0016A_L
pins: 1 SYNC/SD (in), 2 CCS (in), 3 RT (out), 4 CCM (in), 5 BUCK (in), 6 ~{PFM} (in), 7 COMP (out), 8 FB (in), 9 VIN (power), 10 VOUT (out), 11 NDRV (out), 12 GND (power), 13 PDRV (out), 14 VP (in), 15 SWP (in), 16 SWN (in)